# Altium footprint library WE-MAPI_3020.PcbLib: 1 footprints
Each footprint in its own frame and in the unit in brackets; x right, y up, seen from the top. Pads: shape width x height; smd on the part's side, far side on the other; paste and mask are expansions set on the pad; w line width, h text height; cw(c..) or ccw(c..) is an arc to the next point about the centre after c.
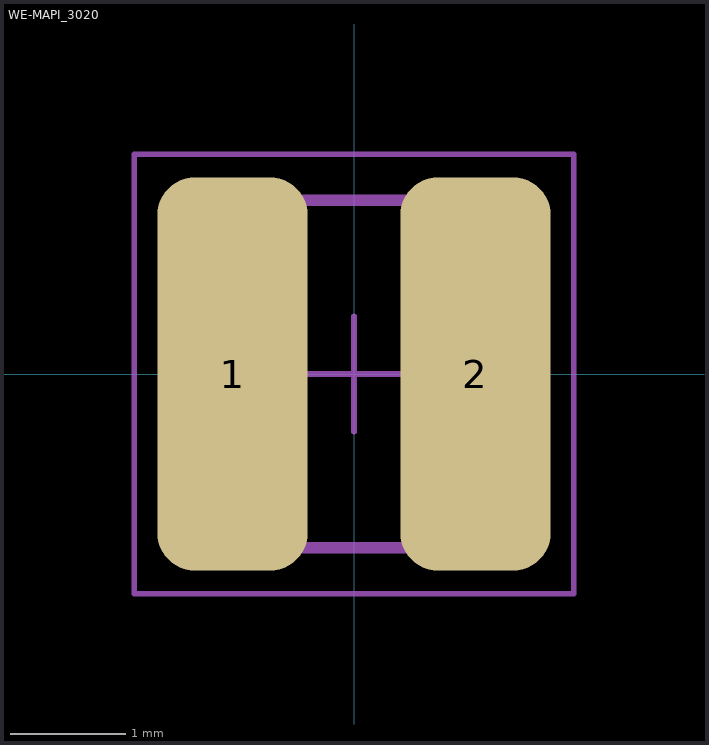
[diagram p0: the footprint, top view; thin cyan lines are the x and y axes]

## WE-MAPI_3020 [mm] "SMT Shielded Power Inductor, body 3x3mm"
height 2
pads (2):
  rrect50% 1.3x3.4 smd: 1(-1.05,0) 2(1.05,0)
Top Assembly:
  lines w0.1: -1.5,-1.5 1.5,-1.5 1.5,1.5 -1.5,1.5 -1.5,-1.5
Top Courtyard:
  lines w0.05: -0.5,0 0.5,0 ; 0,-0.5 0,0.5 ; -1.9,-1.9 1.9,-1.9 1.9,1.9 -1.9,1.9 -1.9,-1.9
3D body "WE-IndMAPI_SSMC-30xx.stp": height 2, standoff 0, extent -1.5,-1.5 1.5,1.5